# EAGLE library part ESP-32S (library ytani1)
ESP 32S ESP32 DevKitC
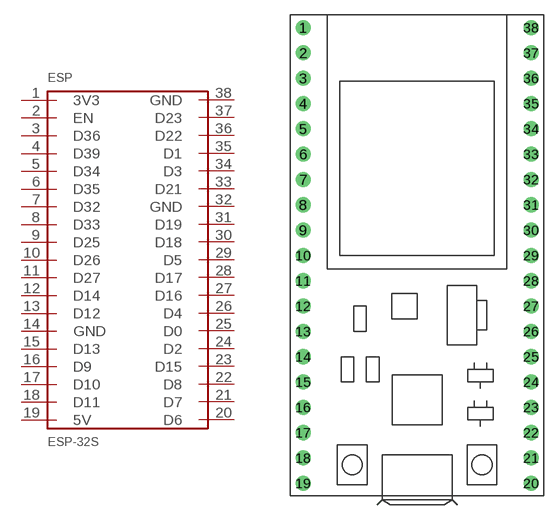
[diagram p3: symbol with the pads of ESP-32S; footprint ESP-32S]

Designator prefix ESP

## ESP-32S  [ESP-32S]
1  3V3  pas
2  EN  pas
3  D36  pas
4  D39  pas
5  D34  pas
6  D35  pas
7  D32  pas
8  D33  pas
9  D25  pas
10  D26  pas
11  D27  pas
12  D14  pas
13  D12  pas
14  GND  pas
15  D13  pas
16  D9  pas
17  D10  pas
18  D11  pas
19  5V  pas
20  D6  pas
21  D7  pas
22  D8  pas
23  D15  pas
24  D2  pas
25  D0  pas
26  D4  pas
27  D16  pas
28  D17  pas
29  D5  pas
30  D18  pas
31  D19  pas
32  GND  pas
33  D21  pas
34  D3  pas
35  D1  pas
36  D22  pas
37  D23  pas
38  GND  pas

## Footprint ESP-32S (pad centres in mm)
drill 1: 1 -11.43,22.86; 2 -11.43,20.32; 3 -11.43,17.78; 4 -11.43,15.24; 5 -11.43,12.7; 6 -11.43,10.16; 7 -11.43,7.62; 8 -11.43,5.08; 9 -11.43,2.54; 10 -11.43,0; 11 -11.43,-2.54; 12 -11.43,-5.08; 13 -11.43,-7.62; 14 -11.43,-10.16; 15 -11.43,-12.7; 16 -11.43,-15.24; 17 -11.43,-17.78; 18 -11.43,-20.32; 19 -11.43,-22.86; 20 11.43,-22.86; 21 11.43,-20.32; 22 11.43,-17.78; 23 11.43,-15.24; 24 11.43,-12.7; 25 11.43,-10.16; 26 11.43,-7.62; 27 11.43,-5.08; 28 11.43,-2.54; 29 11.43,0; 30 11.43,2.54; 31 11.43,5.08; 32 11.43,7.62; 33 11.43,10.16; 34 11.43,12.7; 35 11.43,15.24; 36 11.43,17.78; 37 11.43,20.32; 38 11.43,22.86